# EAGLE library part PDQE20-Q?-D*-D (library PDQE20-D)
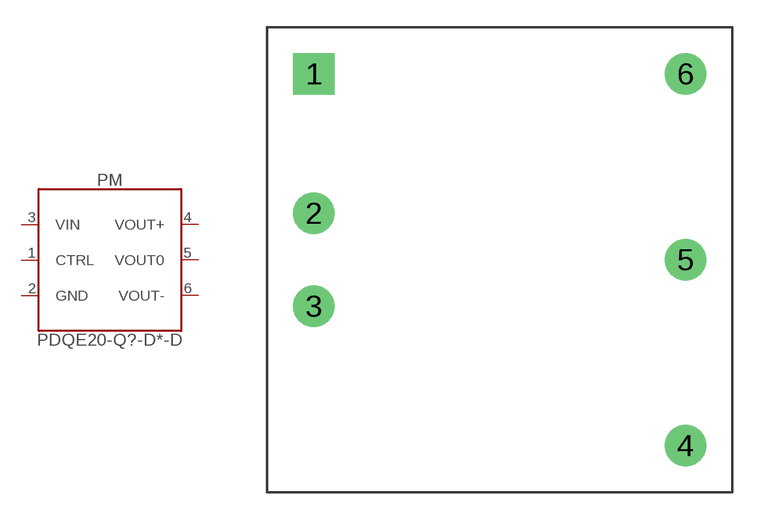
[diagram p0: symbol with the pads of PDQE20; footprint PDQE20]

Designator prefix PM

## PDQE20-Q48-D12-D (MF: Cui Inc; MPN: PDQE20-Q48-D12-D), PDQE20-Q48-D15-D (MF: Cui Inc; MPN: PDQE20-Q48-D15-D), PDQE20-Q48-D24-D (MF: Cui Inc; MPN: PDQE20-Q48-D24-D), PDQE20-Q48-D5-D (MF: Cui Inc; MPN: PDQE20-Q48-D5-D)  [PDQE20]
1  CTRL
2  GND
3  VIN
4  VOUT+
5  VOUT0
6  VOUT-

## PDQE20-Q24-D12-D (MF: Cui Inc; MPN: PDQE20-Q24-D12-D), PDQE20-Q24-D15-D (MF: Cui Inc; MPN: PDQE20-Q24-D15-D), PDQE20-Q24-D24-D (MF: Cui Inc; MPN: PDQE20-Q24-D24-D), PDQE20-Q24-D5-D (MF: Cui Inc; MPN: PDQE20-Q24-D5-D)  [PDQE20]
Pads as for PDQE20

## Footprint PDQE20 (pad centres in mm)
drill 1.5 square: 1 -10.16,10.16
drill 1.5: 2 -10.16,2.54; 3 -10.16,-2.54; 4 10.16,-10.16; 5 10.16,0; 6 10.16,10.16